# Altium footprint library transistornew.PcbLib: 2 footprints
Each footprint in its own frame and in the unit in brackets; x right, y up, seen from the top. Pads: shape width x height; smd on the part's side, far side on the other; paste and mask are expansions set on the pad; w line width, h text height; cw(c..) or ccw(c..) is an arc to the next point about the centre after c.
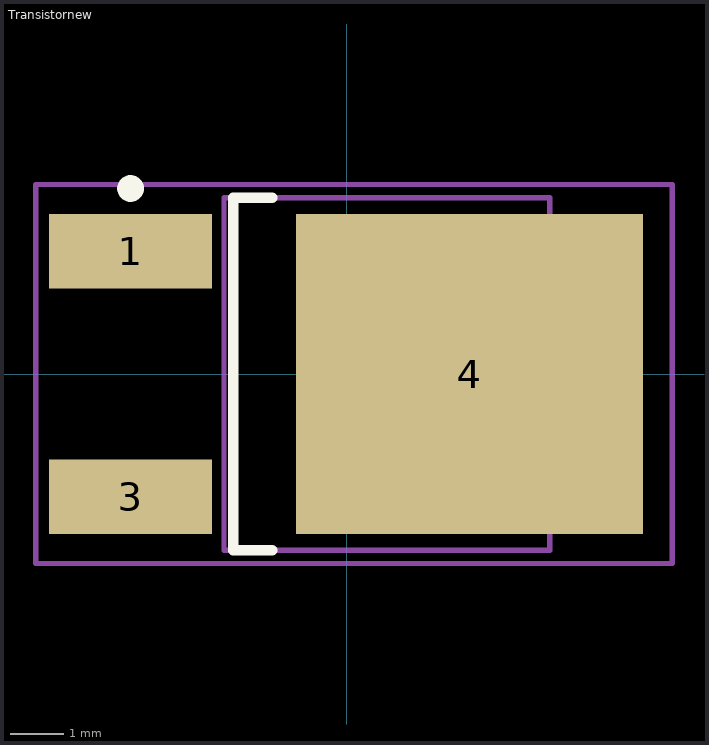
[diagram p0: the footprints below, top view; thin cyan lines are the x and y axes]

## PCBComponent_1 - duplicate [mm]

## Transistornew [mm] "D-PAK, 3-Pads, Body 6.1x6.6mm (max), IPC Medium Density"
height 2.39
pads (3):
  rect 3.05x1.4 smd: 1(-4.05,2.3) 3(-4.05,-2.3)
  rect 6.5x6 smd: 4(2.3,0)
Top Overlay:
  circle w0.25: c-4.05,3.475 r0.125
  lines w0.2: -1.4,-3.3 -2.125,-3.3 -2.125,3.3 -1.4,3.3
Mechanical 13:
  lines w0.1: -2.3,-3.3 -2.3,3.3 3.8,3.3 3.8,-3.3 -2.3,-3.3
Mechanical 15:
  lines w0.1: -0.5,0 0.5,0 ; 0,-0.5 0,0.5 ; -5.825,-3.55 -5.825,3.55 6.096,3.55 6.096,-3.55 -5.825,-3.55
3D body: height 2.39, standoff 0.5, extent -2.3,-3.3 3.8,3.3